# Altium schematic symbol library 44TSOPBreakout.SchLib: 1 symbol
Pins are listed as number, name and electrical type; pins without a type are passive.

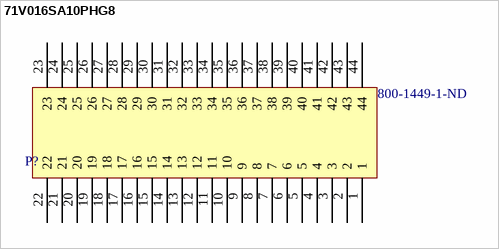
[diagram p0: symbol 71V016SA10PHG8]

## 71V016SA10PHG8
designator P?  Supplier Part Number 1: 800-1449-1-ND  (hidden comment: *)
IC SRAM 1MBIT 10NS 44TSOP; Manufacturer: IDT, Integrated Device Technology Inc; Manufacturer Part Number: 71V016SA10PHG8; Format - Memory: RAM; Memory Type: SRAM - Asynchronous; Memory Size: 1M (64K x 16); Interface: Parallel; Voltage - Supply: 3.15 V ~ 3.6 V; Supplier 1: Digi-Key; RoHS: RoHS Compliant; Category: Integrated Circuits (ICs); Stock 1: 2502; Pricing 1: 1=2.71, 25=2.1932, 100=1.972, 250=1.751, 500=1.53 (USD); Packaging: Cut Tape (CT); Speed: 10ns; Operating Temperature: 0°C ~ 70°C; Package / Case: 44-TSOP (0.400", 10.16mm Width); Supplier Device Package: 44-TSOP II; ComponentLink1URL: http://www.idt.com/document/71v016sa-datasheet; ComponentLink1Description: http://www.idt.com/document/71v016sa-datasheet
footprint TSOP80P1180X119-44N (TSOP, 44-Leads, Body 18.41x10.16mm, Pitch 0.80mm, IPC Medium Density)
pins: 1, 2, 3, 4, 5, 6, 7, 8, 9, 10, 11, 12, 13, 14, 15, 16, 17, 18, 19, 20, 21, 22, 23, 24, 25, 26, 27, 28, 29, 30, 31, 32, 33, 34, 35, 36, 37, 38, 39, 40, 41, 42, 43, 44